# EAGLE library part MICROHAL_CONNECTOR_M_1_REDUCED (library microhal-connector_v0.1)
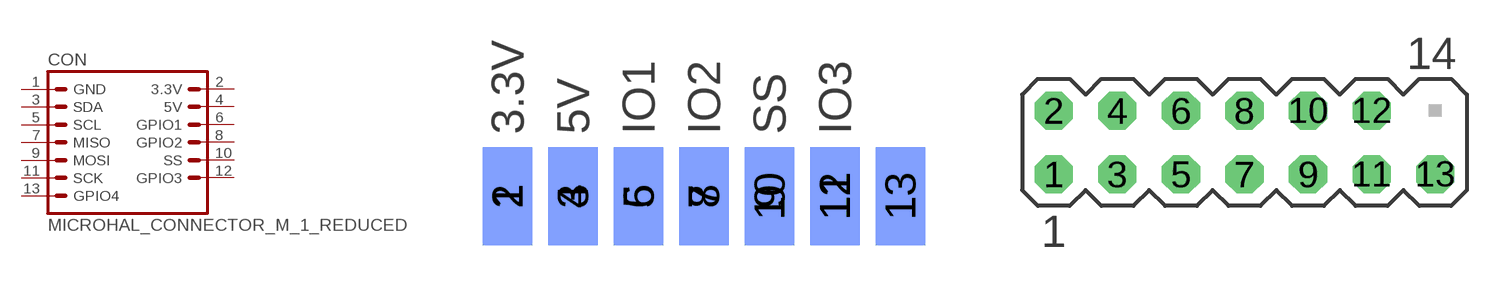
[diagram p1: symbol with the pads of MICROHAL_CONNECTOR_M_1_REDUCED_EDGE; footprints MICROHAL_CONNECTOR_M_1_REDUCED_EDGE, MA07-2]

Designator prefix CON

## MICROHAL_CONNECTOR_M_1_REDUCED  [MICROHAL_CONNECTOR_M_1_REDUCED_EDGE]
1  GND  pas
2  3.3V  pas
3  SDA  pas
4  5V  pas
5  SCL  pas
6  GPIO1  pas
7  MISO  pas
8  GPIO2  pas
9  MOSI  pas
10  SS  pas
11  SCK  pas
12  GPIO3
13  GPIO4

## MICROHAL_CONNECTOR_M_1_REDUCEDTHT  [MA07-2]
Pads as for MICROHAL_CONNECTOR_M_1_REDUCED_EDGE

## Footprint MICROHAL_CONNECTOR_M_1_REDUCED_EDGE (pad centres in mm)
smd 1.93 x 3.81 bottom: 1 -7.62,0; 3 -5.08,0; 5 -2.54,0; 7 0,0; 9 2.54,0; 11 5.08,0; 13 7.62,0
smd 1.93 x 3.81: 2 -7.62,0; 4 -5.08,0; 6 -2.54,0; 8 0,0; 10 2.54,0; 12 5.08,0

## Footprint MA07-2 (pad centres in mm)
PIN HEADER
drill 1.016 octagon: 1 -7.62,-1.27; 2 -7.62,1.27; 3 -5.08,-1.27; 4 -5.08,1.27; 5 -2.54,-1.27; 6 -2.54,1.27; 7 0,-1.27; 8 0,1.27; 9 2.54,-1.27; 10 2.54,1.27; 11 5.08,-1.27; 12 5.08,1.27; 13 7.62,-1.27